# EAGLE library part USB-C (library NEON-BLADE-2023)
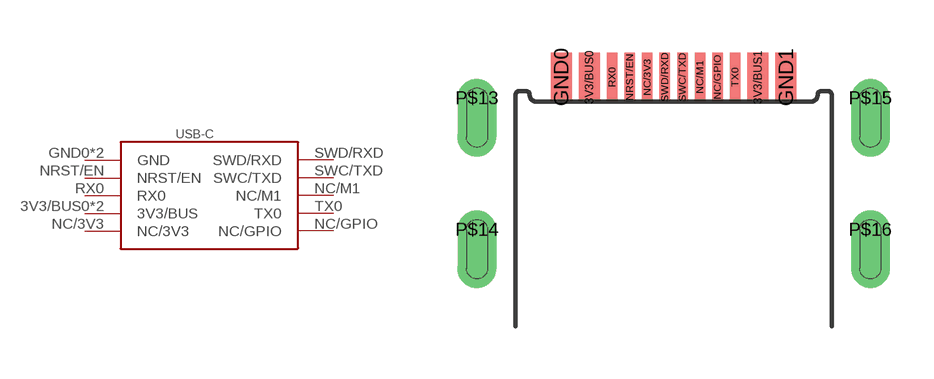
[diagram p11: symbol with the pads of USB-C; footprint USB-C]

Designator prefix -

## USB-C  [USB-C]
3V3/BUS0  3V3/BUS
3V3/BUS1  3V3/BUS
GND0  GND
GND1  GND
NC/3V3  NC/3V3
NC/GPIO  NC/GPIO
NC/M1  NC/M1
NRST/EN  NRST/EN
RX0  RX0
SWC/TXD  SWC/TXD
SWD/RXD  SWD/RXD
TX0  TX0

## Footprint USB-C (pad centres in mm)
smd 0.6 x 1.4: 3V3/BUS0 -2.4,7.1; 3V3/BUS1 2.4,7.1; GND0 -3.2,7.1; GND1 3.2,7.1
smd 0.3 x 1.4: NC/3V3 -0.75,7.1; NC/GPIO 1.25,7.1; NC/M1 0.75,7.1; NRST/EN -1.25,7.1; RX0 -1.75,7.1; SWC/TXD 0.25,7.1; SWD/RXD -0.25,7.1; TX0 1.75,7.1
drill 0.6 pad 1.1 offset: P$13 -5.6,6.5; P$14 -5.6,2.75; P$15 5.6,6.5; P$16 5.6,2.75